# Altium schematic symbol library Симисторы.SchLib: 4 symbols
Pins are listed as number, name and electrical type; pins without a type are passive.

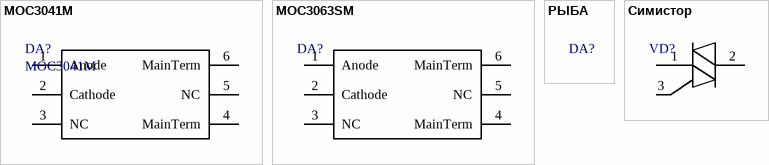
[diagram p0: symbols MOC3041M to Симистор]

## MOC3041M
designator DA?
footprint DIP_6
pins: 1 Anode, 2 Cathode, 3 NC, 4 MainTerm, 5 NC, 6 MainTerm

## MOC3063SM
designator DA?  (value not drawn)
ManufacturerPartNumber: MOC3063SM; Manufacturer: onsemi; Rem: *; Package: SMT 6; Value: *; Tolerance: *; Power/Voltage: *; TKE: *; Quantity: *; Примечание: *
footprint SMT_6
pins: 1 Anode, 2 Cathode, 3 NC, 4 MainTerm, 5 NC, 6 MainTerm

## РЫБА
designator DA?  (value not drawn)
Rem: *; Package: *; Value: *; Tolerance: *; Power/Voltage: *; TKE: *; ManufacturerPartNumber: *; Manufacturer: *; Quantity: *; Примечание: *

## Симистор
designator VD?
pins: 1 T1, 2 T2, 3 gate